# Altium footprint library Kingst51.PcbLib: 22 footprints (part 1 of 2)
Each footprint in its own frame and in the unit in brackets; x right, y up, seen from the top. Pads: shape width x height; smd on the part's side, far side on the other; paste and mask are expansions set on the pad; w line width, h text height; cw(c..) or ccw(c..) is an arc to the next point about the centre after c.
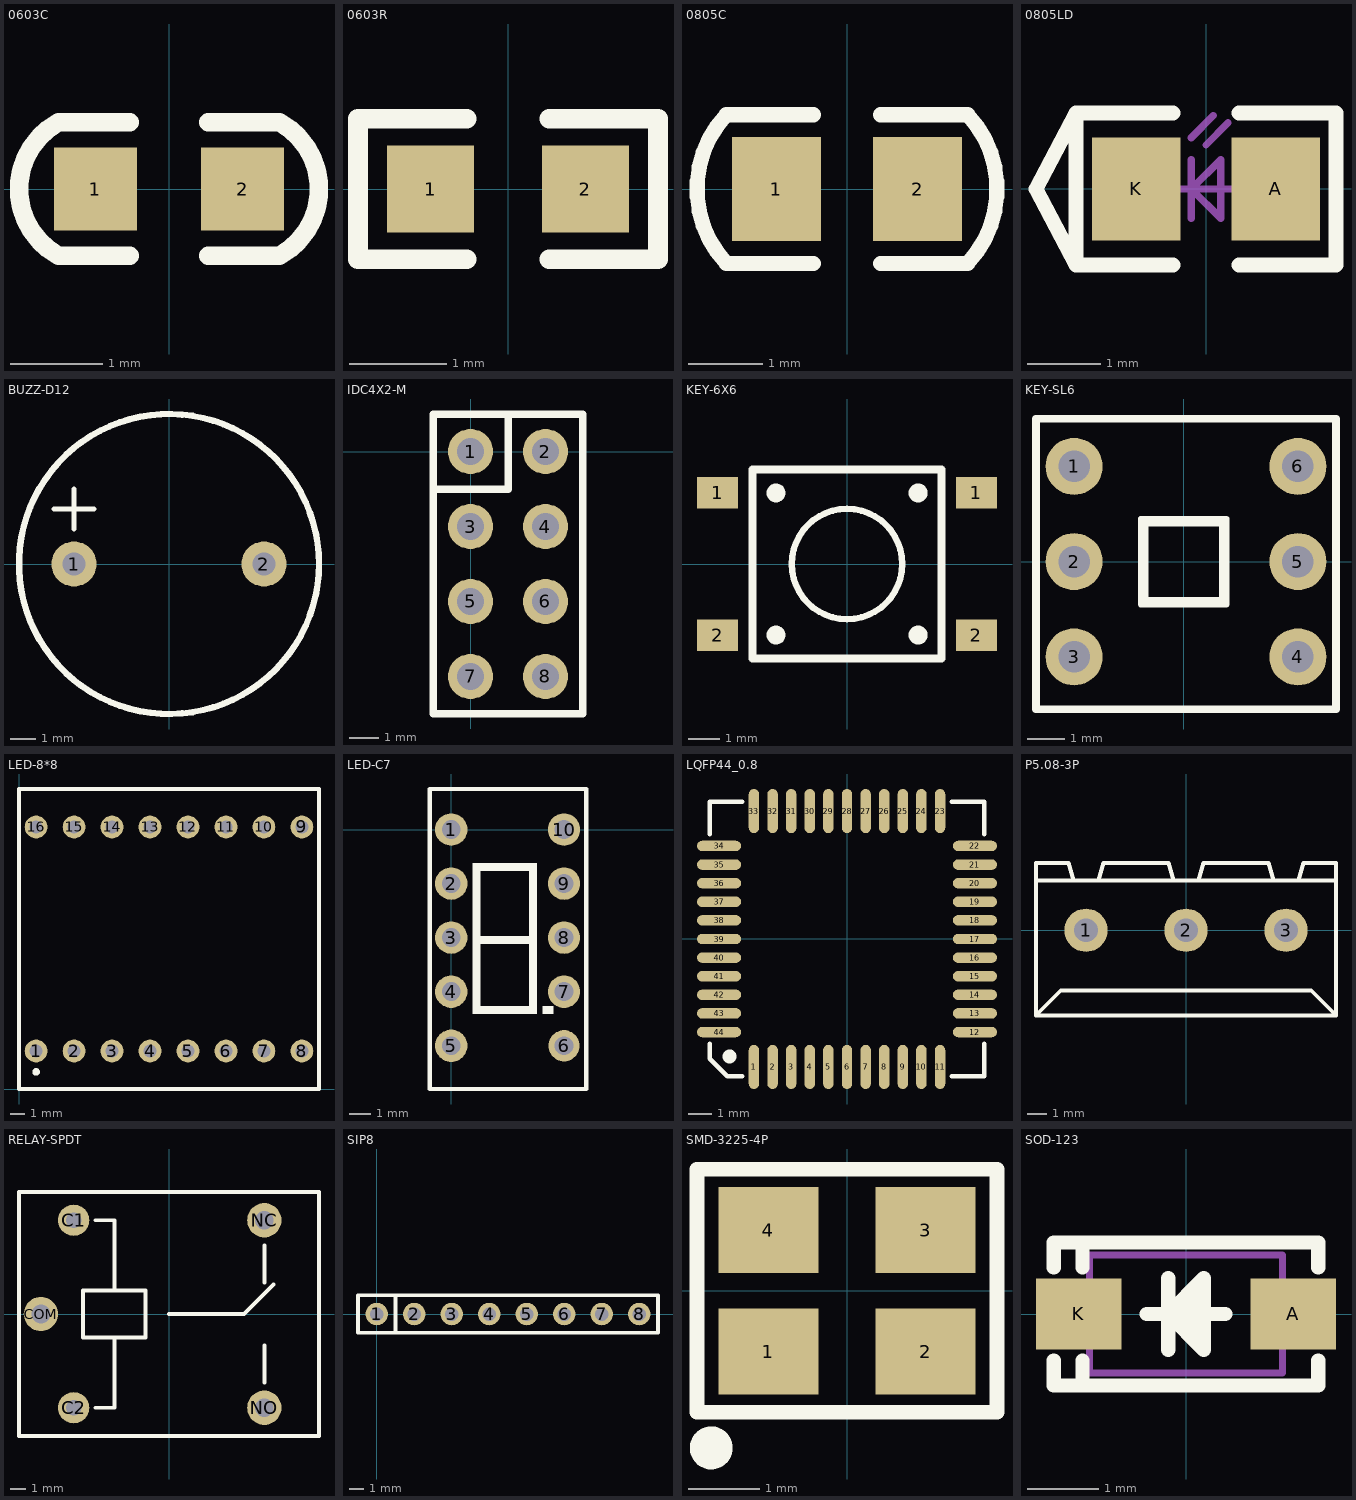
[diagram p0: the footprints below, top view; thin cyan lines are the x and y axes]

## 0603C [mm]
pads (2):
  rect 0.9x0.9 smd mask+0.025: 1(-0.8,0) 2(0.8,0)
Top Overlay:
  lines w0.203: -0.425,-0.725 -1.2,-0.725 cw(c-0.8,0) -1.2,0.725 -0.425,0.725 ; 0.425,-0.725 1.2,-0.725 ccw(c0.8,0) 1.2,0.725 0.425,0.725
3D body: height 0.3, standoff 0, extent -0.8,-0.4 0.8,0.4

## 0603R [mm]
pads (2):
  rect 0.9x0.9 smd mask+0.025: 1(-0.8,0) 2(0.8,0)
Top Overlay:
  lines w0.203: -1.55,-0.725 -1.55,0.725 ; -1.544,-0.725 -0.425,-0.725 ; -1.544,0.725 -0.425,0.725 ; 0.425,-0.725 1.544,-0.725 ; 0.425,0.725 1.544,0.725 ; 1.55,-0.725 1.55,0.725
3D body: height 0.56, standoff 0, extent -0.85,-0.4 0.85,0.4

## 0805C [mm]
pads (2):
  rect 1.2x1.4 smd mask+0.025: 1(-0.95,0) 2(0.95,0)
Top Overlay:
  lines w0.203: -1.625,-1 -0.45,-1 ; -1.625,-0.998 cw(c-0.554,0.001) -1.625,1 -0.45,1 ; 0.45,-1 1.625,-1 ; 0.45,1 1.625,1 cw(c0.554,0.001) 1.625,-0.998
3D body: height 0.77, standoff -0.01, extent -0.999,-0.625 1.001,0.625

## 0805LD [mm]
pads (2):
  rect 1.2x1.4 smd mask+0.025: A(0.95,0) K(-0.95,0)
Top Overlay:
  lines w0.2: -0.45,-1.035 -1.77,-1.035 ; -0.45,1.035 -1.77,1.035 ; 0.45,-1.035 1.77,-1.035 1.77,1.035 0.45,1.035 ; -1.77,-1.035 -1.77,1.035 ; -1.77,-1.035 -2.315,0 -1.77,1.035
Mechanical 13:
  lines w0.1: -0.4,0 0.4,0 ; -0.2,-0.4 -0.2,0.4 ; -0.2,0.7 0.1,1 ; 0,0.6 0.3,0.9 ; -0.2,0 0.2,0.4 0.2,-0.4 -0.2,0
3D body: height 1.1, standoff 0, extent -1.01,-0.625 1.01,0.625

## BUZZ-D12 [mm]
pads (2):
  round 1.8 hole 0.914: 1(-3.8,0) 2(3.8,0)
Top Overlay:
  circle w0.254: c0,0 r6
  lines w0.203: -4.6,2.2 -3,2.2 ; -3.8,1.4 -3.8,3
3D body: height 7.5, standoff -2, extent -6,-5.993 6,5.993

## IDC4X2-M [mil]
height 433.07
pads (8):
  round 60 hole 36: 1(0,0) 2(100,0) 3(0,-100) 4(100,-100) 5(0,-200) 6(100,-200) 7(0,-300) 8(100,-300)
Top Overlay:
  lines w10: -50,-50 50,-50 50,50 ; -50,-350 -50,50 150,50 150,-350 -50,-350

## KEY-6X6 [mm]
pads (4):
  rect 1.3x1 smd mask+0.025: 1(-4.1,2.25) 1(4.1,2.25) 2(-4.1,-2.25) 2(4.1,-2.25)
Top Overlay:
  circle w0.2: c0,0 r1.75
  circle w0.3: c-2.25,2.25 r0.15
  circle w0.3: c2.25,2.25 r0.15
  circle w0.3: c2.25,-2.25 r0.15
  circle w0.3: c-2.25,-2.25 r0.15
  lines w0.254: -3,-3 -3,3 3,3 3,-3 -3,-3

## KEY-SL6 [mil]
pads (6):
  round 60 hole 33: 1(-115,100) 2(-115,0) 3(-115,-100) 4(120,-100) 5(120,0) 6(120,100)
Top Overlay:
  lines w6: -45,-45 45,-45 45,45 -45,45 -45,-45 ; -40,-40 40,-40 40,40 -40,40 -40,-40
  lines w8: -155,-155 -155,150 160,150 160,-155 -155,-155

## LED-8*8 [mil]
pads (16):
  round 60 hole 35: 1(45,100) 2(145,100) 3(245,100) 4(345,100) 5(445,100) 6(545,100) 7(645,100) 8(745,100) 9(745,690) 10(645,690) 11(545,690) 12(445,690) 13(345,690) 14(245,690) 15(145,690) 16(45,690)
Top Overlay:
  circle w10: c45,45 r5
  lines w10: 0,0 0,790 790,790 790,0 0,0

## LED-C7 [mil]
pads (10):
  round 60 hole 35: 1(0,0) 2(0,-100) 3(0,-200) 4(0,-300) 5(0,-400) 7(208.66,-300) 8(208.66,-200) 9(208.66,-100) 10(208.66,0)
  round 58 hole 35: 6(208.66,-400)
Top Overlay:
  rectangle: 39.06,-341.57 159.06,-326.57
  rectangle: 39.06,-211.57 159.06,-196.57
  rectangle: 144.06,-336.57 159.06,-211.57
  rectangle: 39.06,-336.57 54.06,-211.57
  rectangle: 144.06,-201.57 159.06,-76.57
  rectangle: 169.06,-341.57 189.06,-326.57
  rectangle: 39.06,-201.57 54.06,-76.57
  rectangle: 39.06,-76.57 159.06,-61.57
  lines w8: -30,75 250,75 250,50 250,-480 -30,-480 -40,-480 -40,-440 -40,75 -10,75

## LQFP44_0.8 [mm] "LQFP, 44-Leads, Body 10x10mm, Pitch 0.8mm"
height 1.4
pads (44):
  oval 0.45x1.9 smd mask+0.025: 1(-4,-5.5) 2(-3.2,-5.5) 3(-2.4,-5.5) 4(-1.6,-5.5) 5(-0.8,-5.5) 6(0,-5.5) 7(0.8,-5.5) 8(1.6,-5.5) 9(2.4,-5.5) 10(3.2,-5.5) 11(4,-5.5) 23(4,5.5) 24(3.2,5.5) 25(2.4,5.5) 26(1.6,5.5) 27(0.8,5.5) 28(0,5.5) 29(-0.8,5.5) 30(-1.6,5.5) 31(-2.4,5.5) 32(-3.2,5.5) 33(-4,5.5)
  oval 1.9x0.45 smd mask+0.025: 12(5.5,-4) 13(5.5,-3.2) 14(5.5,-2.4) 15(5.5,-1.6) 16(5.5,-0.8) 17(5.5,0) 18(5.5,0.8) 19(5.5,1.6) 20(5.5,2.4) 21(5.5,3.2) 22(5.5,4) 34(-5.5,4) 35(-5.5,3.2) 36(-5.5,2.4) 37(-5.5,1.6) 38(-5.5,0.8) 39(-5.5,0) 40(-5.5,-0.8) 41(-5.5,-1.6) 42(-5.5,-2.4) 43(-5.5,-3.2) 44(-5.5,-4)
Top Overlay:
  circle w0.3: c-5.05,-5.05 r0.15
  lines w0.203: -5.9,-4.5 -5.9,-5.15 -5.15,-5.9 -4.5,-5.9 ; -5.9,4.5 -5.9,5.9 -4.5,5.9 ; 4.5,-5.9 5.9,-5.9 5.9,-4.5 ; 4.5,5.9 5.9,5.9 5.9,4.5
3D body: height 1.5, standoff 0.02, extent -6,-6 6,6

## P5.08-3P [mm]
pads (3):
  round 2.2 hole 1.2: 1(-5.08,0) 2(0,0) 3(5.08,0)
Top Overlay:
  lines w0.203: -7.62,2.54 7.62,2.54 ; -5.715,2.54 -5.969,3.429 -7.62,3.429 -7.62,-4.318 ; -4.445,2.54 -4.191,3.429 -0.889,3.429 -0.635,2.54 ; 0.635,2.54 0.889,3.429 4.191,3.429 4.445,2.54 ; 5.715,2.54 5.969,3.429 7.62,3.429 7.62,-4.318 ; -7.62,-4.318 7.62,-4.318 ; -7.62,-4.318 -6.35,-3.048 6.35,-3.048 7.62,-4.318

## RELAY-SPDT [mm]
pads (5):
  round 2 hole 1: C1(-6.1,6) C2(-6.1,-6)
  round 2.2 hole 1.2: COM(-8.2,0) NC(6.1,6) NO(6.1,-6)
Top Overlay:
  lines w0.254: -4.7,-6 -3.5,-6 -3.5,-1.5 ; -4.7,6 -3.5,6 -3.5,1.5 ; 0,0 2.5,0 4.8,0 6.7,1.9 ; 6.1,-4.4 6.1,-2 ; 6.1,2 6.1,4.4 ; -9.6,-7.8 -9.6,7.8 9.6,7.8 9.6,-7.8 -9.6,-7.8 ; -5.5,-1.5 -5.5,1.5 -1.5,1.5 -1.5,-1.5 -5.5,-1.5
3D body: height 15, standoff -4.5, extent -9.5,-7.7 9.5,7.7

## SIP8 [mil]
pads (8):
  round 60 hole 36: 1(0,0) 2(100,0) 3(200,0) 4(300,0) 5(400,0) 6(500,0) 7(600,0) 8(700,0)
Top Overlay:
  lines w10: 50,-50 50,50 ; -50,-50 750,-50 750,50 -50,50 -50,-50

## SMD-3225-4P [mm]
pads (4):
  rect 1.4x1.2 smd mask+0.025: 1(-1.1,-0.85) 2(1.1,-0.85) 3(1.1,0.85) 4(-1.1,0.85)
Top Overlay:
  circle w0.3: c-1.9,-2.2 r0.15
  lines w0.203: -2.1,-1.7 2.1,-1.7 2.1,1.7 -2.1,1.7 -2.1,-1.7
3D body: height 0.61, standoff 0, extent -1.6,-1.25 1.6,1.25

## SOD-123 [mm]
pads (2):
  rect 1.2x1 smd mask+0.025: A(1.5,0) K(-1.5,0)
Top Overlay:
  lines w0.2: -1.85,-0.65 -1.85,-1 1.85,-1 1.85,-0.65 ; -1.85,0.65 -1.85,1 1.85,1 1.85,0.65 ; -1.45,-1 -1.45,-0.65 ; -1.45,0.65 -1.45,1 ; -0.55,0 0.55,0 ; -0.25,-0.5 -0.25,0.5 ; 0.2,-0.2 0,0 0.2,0.2 ; -0.25,0 0.25,-0.5 0.25,0.5 -0.25,0
Mechanical 13:
  lines w0.1: -1.35,-0.825 -1.35,0.825 1.35,0.825 1.35,-0.825 -1.35,-0.825
3D body: height 1.35, standoff 0, extent -1.85,-0.775 1.85,0.775